# EAGLE library part TPS6216X (library ekho)
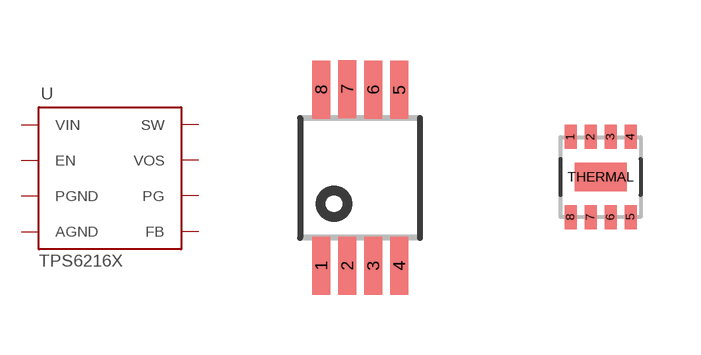
[diagram p4: symbol with the pads of MSOP8; footprints MSOP8, WSON8]

Designator prefix U

## TPS6216X  [MSOP8]
1  PGND
2  VIN
3  EN
4  AGND
5  FB
6  VOS
7  SW
8  PG

## TPS6216XWSON  [WSON8]
1  PGND
2  VIN
3  EN
4  AGND
5  FB
6  VOS
7  SW
8  PG
THERMAL  AGND

## Footprint MSOP8 (pad centres in mm)
8M, 8-Lead, 0.118" Wide, Miniature Small Outline Package MSOP 8M-Package doc1097.pdf
smd 0.45 x 1.45: 1 -0.975,-2.2; 2 -0.325,-2.2; 3 0.325,-2.2; 4 0.975,-2.2; 5 0.975,2.2; 6 0.325,2.2; 7 -0.325,2.22; 8 -0.975,2.2

## Footprint WSON8 (pad centres in mm)
smd 0.3 x 0.6: 1 -0.75,1; 2 -0.25,1; 3 0.25,1; 4 0.75,1; 5 0.75,-1; 6 0.25,-1; 7 -0.25,-1; 8 -0.75,-1
smd 1.3 x 0.7: THERMAL 0,0